# EAGLE library part 416131160812 (library Wurth_Elektronik_Electromechanic_Switchs_rev15b)
WS-HP-1.27 mm small compact SMD Dip Switch with top tape,24 pins,12 poles
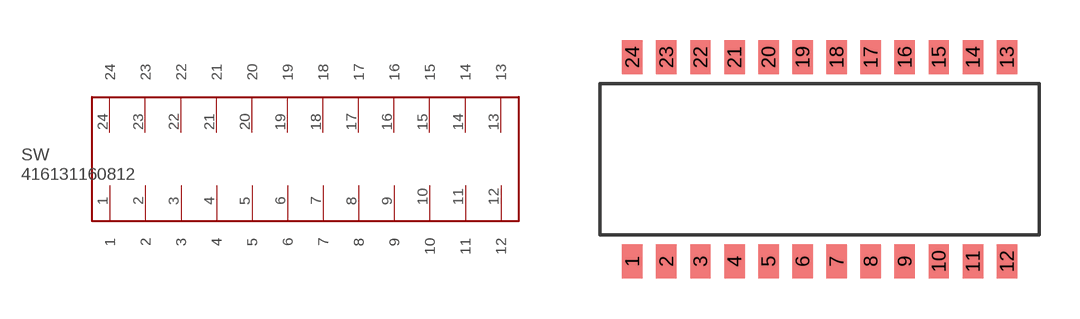
[diagram p29: symbol with the pads of 416131160812; footprint 416131160812]

Designator prefix SW

## 416131160812  [416131160812]
1  1
2  2
3  3
4  4
5  5
6  6
7  7
8  8
9  9
10  10
11  11
12  12
13  13
14  14
15  15
16  16
17  17
18  18
19  19
20  20
21  21
22  22
23  23
24  24

## Footprint 416131160812 (pad centres in mm)
WS-HP-1.27 mm small compact SMD Dip Switch with top tape,24 pins,12 poles
smd 0.76 x 1.27: 1 0,-3.81; 2 1.27,-3.81; 3 2.54,-3.81; 4 3.81,-3.81; 5 5.08,-3.81; 6 6.35,-3.81; 7 7.62,-3.81; 8 8.89,-3.81; 9 10.16,-3.81; 10 11.43,-3.81; 11 12.7,-3.81; 12 13.97,-3.81; 13 13.97,3.81; 14 12.7,3.81; 15 11.43,3.81; 16 10.16,3.81; 17 8.89,3.81; 18 7.62,3.81; 19 6.35,3.81; 20 5.08,3.81; 21 3.81,3.81; 22 2.54,3.81; 23 1.27,3.81; 24 0,3.81